# EAGLE library part LM324 (library bytewerk-analog)
quad opamp
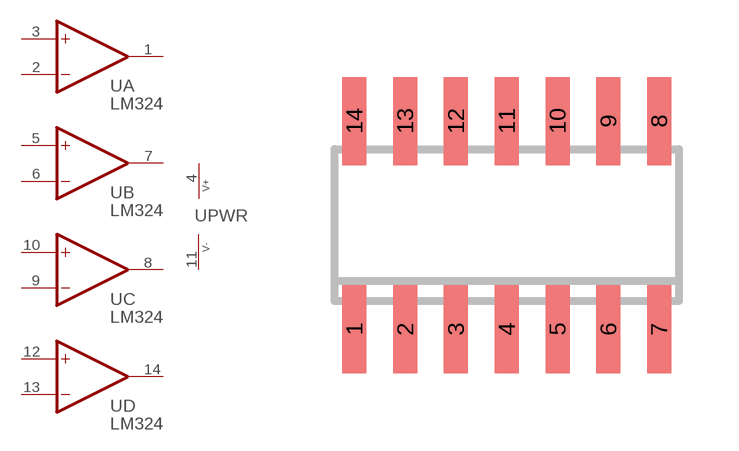
[diagram p0: symbol with the pads of SO-14; footprint SO-14]

Designator prefix U; gates D=OPAMP C=OPAMP A=OPAMP B=OPAMP PWR=PWR+-

## LM324  [SO-14]
1  A:OUT  out
2  A:-IN  in
3  A:+IN  in
4  PWR:GND  pwr
5  B:+IN  in
6  B:-IN  in
7  B:OUT  out
8  C:OUT  out
9  C:-IN  in
10  C:+IN  in
11  PWR:VCC  pwr
12  D:+IN  in
13  D:-IN  in
14  D:OUT  out

## Footprint SO-14 (pad centres in mm)
Small Outline Narrow Plastic Gull Wing 150-mil body, package type SL
smd 0.6 x 2.2: 1 -3.81,-2.6; 2 -2.54,-2.6; 3 -1.27,-2.6; 4 0,-2.6; 5 1.27,-2.6; 6 2.54,-2.6; 7 3.81,-2.6; 8 3.81,2.6; 9 2.54,2.6; 10 1.27,2.6; 11 0,2.6; 12 -1.27,2.6; 13 -2.54,2.6; 14 -3.81,2.6